# Altium footprint library 429CORE.PcbLib: 1 footprints
Each footprint in its own frame and in the unit in brackets; x right, y up, seen from the top. Pads: shape width x height; smd on the part's side, far side on the other; paste and mask are expansions set on the pad; w line width, h text height; cw(c..) or ccw(c..) is an arc to the next point about the centre after c.
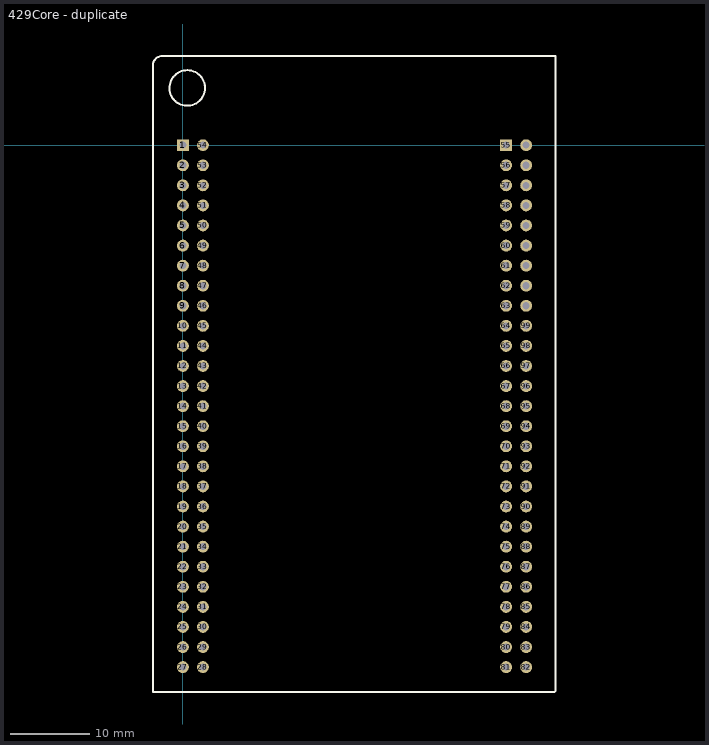
[diagram p0: the footprint, top view; thin cyan lines are the x and y axes]

## 429Core - duplicate [mm]
pads (108):
  rect 1.5x1.5 hole 0.9: 1(0,0) 55(40.894,0)
  round 1.5 hole 0.9: 2(0,-2.54) 3(0,-5.08) 4(0,-7.62) 5(0,-10.16) 6(0,-12.7) 7(0,-15.24) 8(0,-17.78) 9(0,-20.32) 10(0,-22.86) 11(0,-25.4) 12(0,-27.94) 13(0,-30.48) 14(0,-33.02) 15(0,-35.56) 16(0,-38.1) 17(0,-40.64) 18(0,-43.18) 19(0,-45.72) 20(0,-48.26) 21(0,-50.8) 22(0,-53.34) 23(0,-55.88) 24(0,-58.42) 25(0,-60.96) 26(0,-63.5) 27(0,-66.04) 28(2.54,-66.04) 29(2.54,-63.5) 30(2.54,-60.96) 31(2.54,-58.42) 32(2.54,-55.88) 33(2.54,-53.34) 34(2.54,-50.8) 35(2.54,-48.26) 36(2.54,-45.72) 37(2.54,-43.18) 38(2.54,-40.64) 39(2.54,-38.1) 40(2.54,-35.56) 41(2.54,-33.02) 42(2.54,-30.48) 43(2.54,-27.94) 44(2.54,-25.4) 45(2.54,-22.86) 46(2.54,-20.32) 47(2.54,-17.78) 48(2.54,-15.24) 49(2.54,-12.7) 50(2.54,-10.16) 51(2.54,-7.62) 52(2.54,-5.08) 53(2.54,-2.54) 54(2.54,0) 56(40.894,-2.54) 57(40.894,-5.08) 58(40.894,-7.62) 59(40.894,-10.16) 60(40.894,-12.7) 61(40.894,-15.24) 62(40.894,-17.78) 63(40.894,-20.32) 64(40.894,-22.86) 65(40.894,-25.4) 66(40.894,-27.94) 67(40.894,-30.48) 68(40.894,-33.02) 69(40.894,-35.56) 70(40.894,-38.1) 71(40.894,-40.64) 72(40.894,-43.18) 73(40.894,-45.72) 74(40.894,-48.26) 75(40.894,-50.8) 76(40.894,-53.34) 77(40.894,-55.88) 78(40.894,-58.42) 79(40.894,-60.96) 80(40.894,-63.5) 81(40.894,-66.04) 82(43.434,-66.04) 83(43.434,-63.5) 84(43.434,-60.96) 85(43.434,-58.42) 86(43.434,-55.88) 87(43.434,-53.34) 88(43.434,-50.8) 89(43.434,-48.26) 90(43.434,-45.72) 91(43.434,-43.18) 92(43.434,-40.64) 93(43.434,-38.1) 94(43.434,-35.56) 95(43.434,-33.02) 96(43.434,-30.48) 97(43.434,-27.94) 98(43.434,-25.4) 99(43.434,-22.86) 100(43.434,-20.32) 101(43.434,-17.78) 102(43.434,-15.24) 103(43.434,-12.7) 104(43.434,-10.16) 105(43.434,-7.62) 106(43.434,-5.08) 107(43.434,-2.54) 108(43.434,0)
Top Overlay:
  lines w0.254: 2.794,7.366 ccw(c0.547,7.241) 2.797,7.241 ; -3.81,-69.215 46.99,-69.215 47.117,-69.088 47.117,11.303 -2.413,11.303 ccw(c-2.54,10.033) -3.81,10.16 -3.81,0.635 -3.81,-69.215